# Altium integrated library NSC Interface LED Driver.IntLib: 2 symbols
Pins are listed as number, name and electrical type; pins without a type are passive.

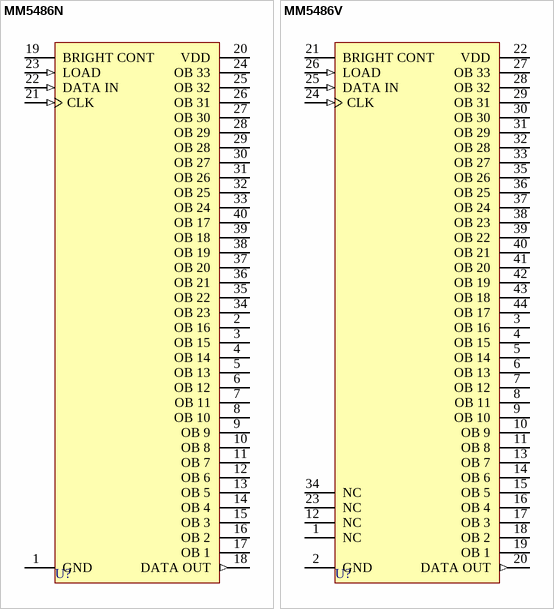
[diagram p0: symbols MM5486N to MM5486V]

## MM5486N
designator U?
LED Display Driver; ComponentAvailability: Obsolete; Published: 15-Apr-2002; LatestRevisionDate: 06-Jun-2005; LatestRevisionNote: Stylized 3D Model Added.; DatasheetVersion: 1995; PackageVersion: 1995; PackageReference: N40A; Publisher: Altium Limited; PackageDescription: DIP; 40 Leads; Row Spacing 15.24 mm; Pitch 2.54 mm; ComponentLink1Description: Manufacturer Link; ComponentLink1URL: http://www.national.com/; ComponentLink2Description: Discontinuation Notice; ComponentLink2URL: http://www.national.com/obs/obsolescence.txt
footprint N40A (DIP; 40 Leads; Row Spacing 15.24 mm; Pitch 2.54 mm)
3D model N40A (DIP; 40 Leads; Row Spacing 15.24 mm; Pitch 2.54 mm)
pins: 1 GND (power), 2 OB 16 (oc), 3 OB 15 (oc), 4 OB 14 (oc), 5 OB 13 (oc), 6 OB 12 (oc), 7 OB 11 (oc), 8 OB 10 (oc), 9 OB 9 (oc), 10 OB 8 (oc), 11 OB 7 (oc), 12 OB 6 (oc), 13 OB 5 (oc), 14 OB 4 (oc), 15 OB 3 (oc), 16 OB 2 (oc), 17 OB 1 (oc), 18 DATA OUT (out), 19 BRIGHT CONT, 20 VDD (power), 21 CLK (in), 22 DATA IN (in), 23 LOAD (in), 24 OB 33 (oc), 25 OB 32 (oc), 26 OB 31 (oc), 27 OB 30 (oc), 28 OB 29 (oc), 29 OB 28 (oc), 30 OB 27 (oc), 31 OB 26 (oc), 32 OB 25 (oc), 33 OB 24 (oc), 34 OB 23 (oc), 35 OB 22 (oc), 36 OB 21 (oc), 37 OB 20 (oc), 38 OB 19 (oc), 39 OB 18 (oc), 40 OB 17 (oc)

## MM5486V
designator U?
LED Display Driver; Note: Pins 1, 12, 23 and 34 are Not Connected; ComponentAvailability: Obsolete; Published: 15-Apr-2002; LatestRevisionDate: 13-Apr-2006; LatestRevisionNote: IPC-7351 Footprint Added.; DatasheetVersion: 1995; PackageVersion: 2000; PackageReference: V44A; Publisher: Altium Limited; PackageDescription: 44-Pin Leaded Chip Carrier 1.27 mm Pitch; Code_IPC: PLCC-44; ComponentLink1Description: Manufacturer Link; ComponentLink1URL: http://www.national.com/; ComponentLink2Description: Discontinuation Notice; ComponentLink2URL: http://www.national.com/obs/obsolescence.txt
footprint V44A_N (Leaded Chip Carrier, 44-Leads, Body 16.6x16.6mm, Pitch 1.27mm, IPC Medium Density)
footprint V44A_L (Leaded Chip Carrier, 44-Leads, Body 16.6x16.6mm, Pitch 1.27mm, IPC High Density)
footprint V44A_M (Leaded Chip Carrier, 44-Leads, Body 16.6x16.6mm, Pitch 1.27mm, IPC Low Density)
3D model MM5486-V44A (44-Pin Leaded Chip Carrier 1.27 mm Pitch)
pins: 1 NC, 2 GND (power), 3 OB 16 (oc), 4 OB 15 (oc), 5 OB 14 (oc), 6 OB 13 (oc), 7 OB 12 (oc), 8 OB 11 (oc), 9 OB 10 (oc), 10 OB 9 (oc), 11 OB 8 (oc), 12 NC, 13 OB 7 (oc), 14 OB 6 (oc), 15 OB 5 (oc), 16 OB 4 (oc), 17 OB 3 (oc), 18 OB 2 (oc), 19 OB 1 (oc), 20 DATA OUT (out), 21 BRIGHT CONT, 22 VDD (power), 23 NC, 24 CLK (in), 25 DATA IN (in), 26 LOAD (in), 27 OB 33 (oc), 28 OB 32 (oc), 29 OB 31 (oc), 30 OB 30 (oc), 31 OB 29 (oc), 32 OB 28 (oc), 33 OB 27 (oc), 34 NC, 35 OB 26 (oc), 36 OB 25 (oc), 37 OB 24 (oc), 38 OB 23 (oc), 39 OB 22 (oc), 40 OB 21 (oc), 41 OB 20 (oc), 42 OB 19 (oc), 43 OB 18 (oc), 44 OB 17 (oc)